# Altium integrated library Inductor 22uH.IntLib: 360 symbols (part 1 of 7)
Pins are listed as number, name and electrical type; pins without a type are passive.

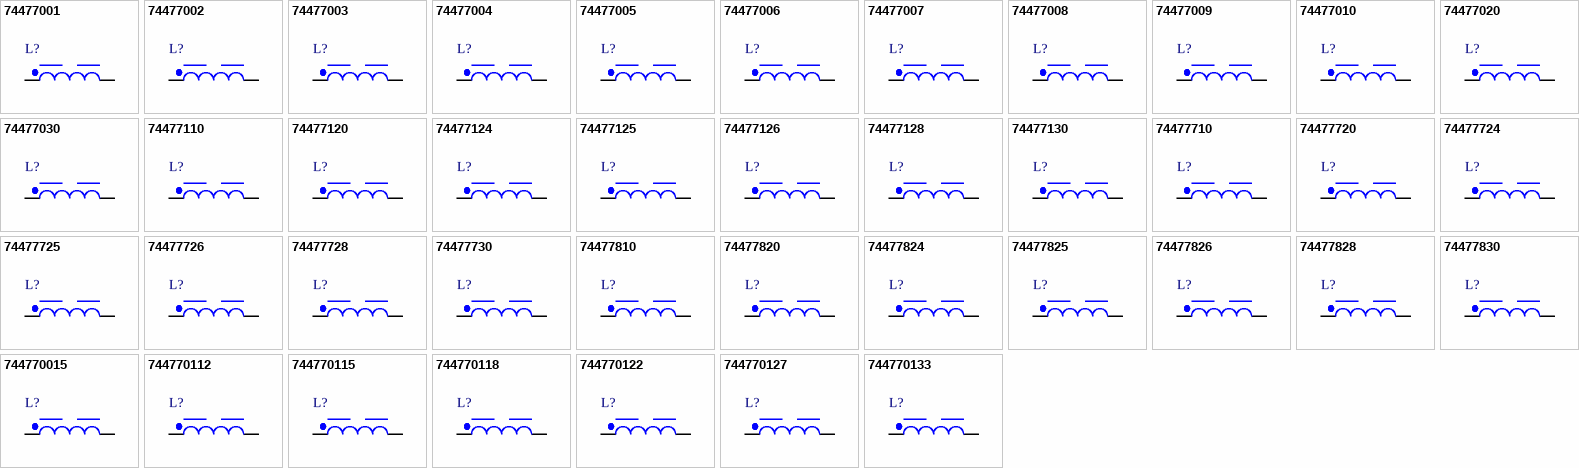
[diagram p0: symbols 74477001 to 744770133]

## 74477001
designator L?, comment 1.2 μH, 13.5 A  (value not drawn)
WE-PD SMT Power Inductor, size 1280, 1.2 μH, 13.5 A, 7 mΩ; Manufacturer Part Number: 74477001; Manufacturer: Wurth Elektronik; Case/Size Code: 1280; DC Resistance: 4.6 mΩ; DC Resistance Max: 7 mΩ; Inductance: 1.2 μH; Rated Current: 13.5 A; Saturation Current: 21 A; Self Resonant Frequency: 45 MHz; Type: Standard; Category: Power Inductors; Match Code: WE-PD; ComponentLink1Description: Website Link; ComponentLink1URL: https://www.we-online.com/redexpert/article/74477001?ad; ComponentLink2Description: Datasheet Link; ComponentLink2URL: https://www.we-online.com/redexpert/spec/74477001?ad; Mount: Surface Mount; Min Operating Temperature: -40 °C; Max Operating Temperature: 125 °C; Packaging: Tape and Reel; Length: 12 mm; Width: 12 mm; Height: 8 mm
footprint WE-PD_1280
simulation model 1280_74477001_1.2u
pins: 1, 2

## 74477002
designator L?, comment 2.4 μH, 11.5 A  (value not drawn)
WE-PD SMT Power Inductor, size 1280, 2.4 μH, 11.5 A, 9 mΩ; Manufacturer Part Number: 74477002; Manufacturer: Wurth Elektronik; Case/Size Code: 1280; DC Resistance: 6.3 mΩ; DC Resistance Max: 9 mΩ; Inductance: 2.4 μH; Rated Current: 11.5 A; Saturation Current: 15 A; Self Resonant Frequency: 41 MHz; Type: Standard; Category: Power Inductors; Match Code: WE-PD; ComponentLink1Description: Website Link; ComponentLink1URL: https://www.we-online.com/redexpert/article/74477002?ad; ComponentLink2Description: Datasheet Link; ComponentLink2URL: https://www.we-online.com/redexpert/spec/74477002?ad; Mount: Surface Mount; Min Operating Temperature: -40 °C; Max Operating Temperature: 125 °C; Packaging: Tape and Reel; Length: 12 mm; Width: 12 mm; Height: 8 mm
footprint WE-PD_1280
simulation model 1280_74477002_2.4u
pins: 1, 2

## 74477003
designator L?, comment 3.5 μH, 10.2 A  (value not drawn)
WE-PD SMT Power Inductor, size 1280, 3.5 μH, 10.2 A, 11 mΩ; Manufacturer Part Number: 74477003; Manufacturer: Wurth Elektronik; Case/Size Code: 1280; DC Resistance: 8 mΩ; DC Resistance Max: 11 mΩ; Inductance: 3.5 μH; Rated Current: 10.2 A; Saturation Current: 12.5 A; Self Resonant Frequency: 37.5 MHz; Type: Standard; Category: Power Inductors; Match Code: WE-PD; ComponentLink1Description: Website Link; ComponentLink1URL: https://www.we-online.com/redexpert/article/74477003?ad; ComponentLink2Description: Datasheet Link; ComponentLink2URL: https://www.we-online.com/redexpert/spec/74477003?ad; Mount: Surface Mount; Min Operating Temperature: -40 °C; Max Operating Temperature: 125 °C; Packaging: Tape and Reel; Length: 12 mm; Width: 12 mm; Height: 8 mm
footprint WE-PD_1280
simulation model 1280_74477003_3.5u
pins: 1, 2

## 74477004
designator L?, comment 4.7 μH, 9.5 A  (value not drawn)
WE-PD SMT Power Inductor, size 1280, 4.7 μH, 9.5 A, 12 mΩ; Manufacturer Part Number: 74477004; Manufacturer: Wurth Elektronik; Case/Size Code: 1280; DC Resistance: 9 mΩ; DC Resistance Max: 12 mΩ; Inductance: 4.7 μH; Rated Current: 9.5 A; Saturation Current: 11 A; Self Resonant Frequency: 31.2 MHz; Type: Standard; Category: Power Inductors; Match Code: WE-PD; ComponentLink1Description: Website Link; ComponentLink1URL: https://www.we-online.com/redexpert/article/74477004?ad; ComponentLink2Description: Datasheet Link; ComponentLink2URL: https://www.we-online.com/redexpert/spec/74477004?ad; Mount: Surface Mount; Min Operating Temperature: -40 °C; Max Operating Temperature: 125 °C; Packaging: Tape and Reel; Length: 12 mm; Width: 12 mm; Height: 8 mm
footprint WE-PD_1280
simulation model 1280_74477004_4.7u
pins: 1, 2

## 74477005
designator L?, comment 5.6 μH, 8.7 A  (value not drawn)
WE-PD SMT Power Inductor, size 1280, 5.6 μH, 8.7 A, 13.5 mΩ; Manufacturer Part Number: 74477005; Manufacturer: Wurth Elektronik; Case/Size Code: 1280; DC Resistance: 10.5 mΩ; DC Resistance Max: 13.5 mΩ; Inductance: 5.6 μH; Rated Current: 8.7 A; Saturation Current: 10 A; Self Resonant Frequency: 24 MHz; Type: Standard; Category: Power Inductors; Match Code: WE-PD; ComponentLink1Description: Website Link; ComponentLink1URL: https://www.we-online.com/redexpert/article/74477005?ad; ComponentLink2Description: Datasheet Link; ComponentLink2URL: https://www.we-online.com/redexpert/spec/74477005?ad; Mount: Surface Mount; Min Operating Temperature: -40 °C; Max Operating Temperature: 125 °C; Packaging: Tape and Reel; Length: 12 mm; Width: 12 mm; Height: 8 mm
footprint WE-PD_1280
simulation model 1280_74477005_5.6u
pins: 1, 2

## 74477006
designator L?, comment 6.1 μH, 8.5 A  (value not drawn)
WE-PD SMT Power Inductor, size 1280, 6.1 μH, 8.5 A, 14 mΩ; Manufacturer Part Number: 74477006; Manufacturer: Wurth Elektronik; Case/Size Code: 1280; DC Resistance: 11 mΩ; DC Resistance Max: 14 mΩ; Inductance: 6.1 μH; Rated Current: 8.5 A; Saturation Current: 9.5 A; Self Resonant Frequency: 25 MHz; Type: Standard; Category: Power Inductors; Match Code: WE-PD; ComponentLink1Description: Website Link; ComponentLink1URL: https://www.we-online.com/redexpert/article/74477006?ad; ComponentLink2Description: Datasheet Link; ComponentLink2URL: https://www.we-online.com/redexpert/spec/74477006?ad; Mount: Surface Mount; Min Operating Temperature: -40 °C; Max Operating Temperature: 125 °C; Packaging: Tape and Reel; Length: 12 mm; Width: 12 mm; Height: 8 mm
footprint WE-PD_1280
simulation model 1280_74477006_6.1u
pins: 1, 2

## 74477007
designator L?, comment 7.6 μH, 8.4 A  (value not drawn)
WE-PD SMT Power Inductor, size 1280, 7.6 μH, 8.4 A, 15 mΩ; Manufacturer Part Number: 74477007; Manufacturer: Wurth Elektronik; Case/Size Code: 1280; DC Resistance: 11.5 mΩ; DC Resistance Max: 15 mΩ; Inductance: 7.6 μH; Rated Current: 8.4 A; Saturation Current: 8.5 A; Self Resonant Frequency: 21.3 MHz; Type: Standard; Category: Power Inductors; Match Code: WE-PD; ComponentLink1Description: Website Link; ComponentLink1URL: https://www.we-online.com/redexpert/article/74477007?ad; ComponentLink2Description: Datasheet Link; ComponentLink2URL: https://www.we-online.com/redexpert/spec/74477007?ad; Mount: Surface Mount; Min Operating Temperature: -40 °C; Max Operating Temperature: 125 °C; Packaging: Tape and Reel; Length: 12 mm; Width: 12 mm; Height: 8 mm
footprint WE-PD_1280
simulation model 1280_74477007_7.6u
pins: 1, 2

## 74477008
designator L?, comment 0.75 μH, 17 A  (value not drawn)
WE-PD SMT Power Inductor, size 1280, 0.75 μH, 17 A, 5 mΩ; Manufacturer Part Number: 74477008; Manufacturer: Wurth Elektronik; Case/Size Code: 1280; DC Resistance: 3.2 mΩ; DC Resistance Max: 5 mΩ; Inductance: 0.75 μH; Rated Current: 17 A; Saturation Current: 27 A; Self Resonant Frequency: 110 MHz; Type: Standard; Category: Power Inductors; Match Code: WE-PD; ComponentLink1Description: Website Link; ComponentLink1URL: https://www.we-online.com/redexpert/article/74477008?ad; ComponentLink2Description: Datasheet Link; ComponentLink2URL: https://www.we-online.com/redexpert/spec/74477008?ad; Mount: Surface Mount; Min Operating Temperature: -40 °C; Max Operating Temperature: 125 °C; Packaging: Tape and Reel; Length: 12 mm; Width: 12 mm; Height: 8 mm
footprint WE-PD_1280
simulation model 1280_74477008_0.75u
pins: 1, 2

## 74477009
designator L?, comment 0.47 μH, 23.5 A  (value not drawn)
WE-PD SMT Power Inductor, size 1280, 0.47 μH, 23.5 A, 3 mΩ; Manufacturer Part Number: 74477009; Manufacturer: Wurth Elektronik; Case/Size Code: 1280; DC Resistance: 1.7 mΩ; DC Resistance Max: 3 mΩ; Inductance: 0.47 μH; Rated Current: 23.5 A; Saturation Current: 34 A; Self Resonant Frequency: 120 MHz; Type: Standard; Category: Power Inductors; Match Code: WE-PD; ComponentLink1Description: Website Link; ComponentLink1URL: https://www.we-online.com/redexpert/article/74477009?ad; ComponentLink2Description: Datasheet Link; ComponentLink2URL: https://www.we-online.com/redexpert/spec/74477009?ad; Mount: Surface Mount; Min Operating Temperature: -40 °C; Max Operating Temperature: 125 °C; Packaging: Tape and Reel; Length: 12 mm; Width: 12 mm; Height: 8 mm
footprint WE-PD_1280
simulation model 1280_74477009_0.47u
pins: 1, 2

## 74477010
designator L?, comment 10 μH, 7 A  (value not drawn)
WE-PD SMT Power Inductor, size 1280, 10 μH, 7 A, 20 mΩ; Manufacturer Part Number: 74477010; Manufacturer: Wurth Elektronik; Case/Size Code: 1280; DC Resistance: 15 mΩ; DC Resistance Max: 20 mΩ; Inductance: 10 μH; Rated Current: 7 A; Saturation Current: 7.5 A; Self Resonant Frequency: 18 MHz; Type: Standard; Category: Power Inductors; Match Code: WE-PD; ComponentLink1Description: Website Link; ComponentLink1URL: https://www.we-online.com/redexpert/article/74477010?ad; ComponentLink2Description: Datasheet Link; ComponentLink2URL: https://www.we-online.com/redexpert/spec/74477010?ad; Mount: Surface Mount; Min Operating Temperature: -40 °C; Max Operating Temperature: 125 °C; Packaging: Tape and Reel; Length: 12 mm; Width: 12 mm; Height: 8 mm
footprint WE-PD_1280
simulation model 1280_74477010_10u
pins: 1, 2

## 74477020
designator L?, comment 100 μH, 2.2 A  (value not drawn)
WE-PD SMT Power Inductor, size 1280, 100 μH, 2.2 A, 140 mΩ; Manufacturer Part Number: 74477020; Manufacturer: Wurth Elektronik; Case/Size Code: 1280; DC Resistance: 117 mΩ; DC Resistance Max: 140 mΩ; Inductance: 100 μH; Rated Current: 2.2 A; Saturation Current: 2.4 A; Self Resonant Frequency: 5.2 MHz; Type: Standard; Category: Power Inductors; Match Code: WE-PD; ComponentLink1Description: Website Link; ComponentLink1URL: https://www.we-online.com/redexpert/article/74477020?ad; ComponentLink2Description: Datasheet Link; ComponentLink2URL: https://www.we-online.com/redexpert/spec/74477020?ad; Mount: Surface Mount; Min Operating Temperature: -40 °C; Max Operating Temperature: 125 °C; Packaging: Tape and Reel; Length: 12 mm; Width: 12 mm; Height: 8 mm
footprint WE-PD_1280
simulation model 1280_74477020_100u
pins: 1, 2

## 74477030
designator L?, comment 1000 μH, 0.65 A  (value not drawn)
WE-PD SMT Power Inductor, size 1280, 1000 μH, 0.65 A, 1180 mΩ; Manufacturer Part Number: 74477030; Manufacturer: Wurth Elektronik; Case/Size Code: 1280; DC Resistance: 980 mΩ; DC Resistance Max: 1180 mΩ; Inductance: 1000 μH; Rated Current: 0.65 A; Saturation Current: 0.7 A; Self Resonant Frequency: 1.8 MHz; Type: Standard; Category: Power Inductors; Match Code: WE-PD; ComponentLink1Description: Website Link; ComponentLink1URL: https://www.we-online.com/redexpert/article/74477030?ad; ComponentLink2Description: Datasheet Link; ComponentLink2URL: https://www.we-online.com/redexpert/spec/74477030?ad; Mount: Surface Mount; Min Operating Temperature: -40 °C; Max Operating Temperature: 125 °C; Packaging: Tape and Reel; Length: 12 mm; Width: 12 mm; Height: 8 mm
footprint WE-PD_1280
simulation model 1280_74477030_1000u
pins: 1, 2

## 74477110
designator L?, comment 10 μH, 5 A  (value not drawn)
WE-PD SMT Power Inductor, size 1260, 10 μH, 5 A, 24 mΩ; Manufacturer Part Number: 74477110; Manufacturer: Wurth Elektronik; Case/Size Code: 1260; DC Resistance: 18.5 mΩ; DC Resistance Max: 24 mΩ; Inductance: 10 μH; Rated Current: 5 A; Saturation Current: 5.5 A; Self Resonant Frequency: 21.5 MHz; Type: Standard; Category: Power Inductors; Match Code: WE-PD; ComponentLink1Description: Website Link; ComponentLink1URL: https://www.we-online.com/redexpert/article/74477110?ad; ComponentLink2Description: Datasheet Link; ComponentLink2URL: https://www.we-online.com/redexpert/spec/74477110?ad; Mount: Surface Mount; Min Operating Temperature: -40 °C; Max Operating Temperature: 125 °C; Packaging: Tape and Reel; Length: 12 mm; Width: 12 mm; Height: 6 mm
footprint WE-PD_1260
simulation model 1260_74477110_10u
pins: 1, 2

## 74477120
designator L?, comment 100 μH, 1.6 A  (value not drawn)
WE-PD SMT Power Inductor, size 1260, 100 μH, 1.6 A, 160 mΩ; Manufacturer Part Number: 74477120; Manufacturer: Wurth Elektronik; Case/Size Code: 1260; DC Resistance: 135 mΩ; DC Resistance Max: 160 mΩ; Inductance: 100 μH; Rated Current: 1.6 A; Saturation Current: 1.7 A; Self Resonant Frequency: 6.6 MHz; Type: Standard; Category: Power Inductors; Match Code: WE-PD; ComponentLink1Description: Website Link; ComponentLink1URL: https://www.we-online.com/redexpert/article/74477120?ad; ComponentLink2Description: Datasheet Link; ComponentLink2URL: https://www.we-online.com/redexpert/spec/74477120?ad; Mount: Surface Mount; Min Operating Temperature: -40 °C; Max Operating Temperature: 125 °C; Packaging: Tape and Reel; Length: 12 mm; Width: 12 mm; Height: 6 mm
footprint WE-PD_1260
simulation model 1260_74477120_100u
pins: 1, 2

## 74477124
designator L?, comment 470 μH, 0.7 A  (value not drawn)
WE-PD SMT Power Inductor, size 1260, 470 μH, 0.7 A, 710 mΩ; Manufacturer Part Number: 74477124; Manufacturer: Wurth Elektronik; Case/Size Code: 1260; DC Resistance: 590 mΩ; DC Resistance Max: 710 mΩ; Inductance: 470 μH; Rated Current: 0.7 A; Saturation Current: 0.8 A; Self Resonant Frequency: 2.6 MHz; Type: Standard; Category: Power Inductors; Match Code: WE-PD; ComponentLink1Description: Website Link; ComponentLink1URL: https://www.we-online.com/redexpert/article/74477124?ad; ComponentLink2Description: Datasheet Link; ComponentLink2URL: https://www.we-online.com/redexpert/spec/74477124?ad; Mount: Surface Mount; Min Operating Temperature: -40 °C; Max Operating Temperature: 125 °C; Packaging: Tape and Reel; Length: 12 mm; Width: 12 mm; Height: 6 mm
footprint WE-PD_1260
simulation model 1260_74477124_470u
pins: 1, 2

## 74477125
designator L?, comment 560 μH, 0.65 A  (value not drawn)
WE-PD SMT Power Inductor, size 1260, 560 μH, 0.65 A, 890 mΩ; Manufacturer Part Number: 74477125; Manufacturer: Wurth Elektronik; Case/Size Code: 1260; DC Resistance: 740 mΩ; DC Resistance Max: 890 mΩ; Inductance: 560 μH; Rated Current: 0.65 A; Saturation Current: 0.7 A; Self Resonant Frequency: 2.5 MHz; Type: Standard; Category: Power Inductors; Match Code: WE-PD; ComponentLink1Description: Website Link; ComponentLink1URL: https://www.we-online.com/redexpert/article/74477125?ad; ComponentLink2Description: Datasheet Link; ComponentLink2URL: https://www.we-online.com/redexpert/spec/74477125?ad; Mount: Surface Mount; Min Operating Temperature: -40 °C; Max Operating Temperature: 125 °C; Packaging: Tape and Reel; Length: 12 mm; Width: 12 mm; Height: 6 mm
footprint WE-PD_1260
simulation model 1260_74477125_560u
pins: 1, 2

## 74477126
designator L?, comment 680 μH, 0.6 A  (value not drawn)
WE-PD SMT Power Inductor, size 1260, 680 μH, 0.6 A, 1020 mΩ; Manufacturer Part Number: 74477126; Manufacturer: Wurth Elektronik; Case/Size Code: 1260; DC Resistance: 850 mΩ; DC Resistance Max: 1020 mΩ; Inductance: 680 μH; Rated Current: 0.6 A; Saturation Current: 0.68 A; Self Resonant Frequency: 2.3 MHz; Type: Standard; Category: Power Inductors; Match Code: WE-PD; ComponentLink1Description: Website Link; ComponentLink1URL: https://www.we-online.com/redexpert/article/74477126?ad; ComponentLink2Description: Datasheet Link; ComponentLink2URL: https://www.we-online.com/redexpert/spec/74477126?ad; Mount: Surface Mount; Min Operating Temperature: -40 °C; Max Operating Temperature: 125 °C; Packaging: Tape and Reel; Length: 12 mm; Width: 12 mm; Height: 6 mm
footprint WE-PD_1260
simulation model 1260_74477126_680u
pins: 1, 2

## 74477128
designator L?, comment 820 μH, 0.55 A  (value not drawn)
WE-PD SMT Power Inductor, size 1260, 820 μH, 0.55 A, 1200 mΩ; Manufacturer Part Number: 74477128; Manufacturer: Wurth Elektronik; Case/Size Code: 1260; DC Resistance: 980 mΩ; DC Resistance Max: 1200 mΩ; Inductance: 820 μH; Rated Current: 0.55 A; Saturation Current: 0.6 A; Self Resonant Frequency: 2.1 MHz; Type: Standard; Category: Power Inductors; Match Code: WE-PD; ComponentLink1Description: Website Link; ComponentLink1URL: https://www.we-online.com/redexpert/article/74477128?ad; ComponentLink2Description: Datasheet Link; ComponentLink2URL: https://www.we-online.com/redexpert/spec/74477128?ad; Mount: Surface Mount; Min Operating Temperature: -40 °C; Max Operating Temperature: 125 °C; Packaging: Tape and Reel; Length: 12 mm; Width: 12 mm; Height: 6 mm
footprint WE-PD_1260
simulation model 1260_74477128_820u
pins: 1, 2

## 74477130
designator L?, comment 1000 μH, 0.5 A  (value not drawn)
WE-PD SMT Power Inductor, size 1260, 1000 μH, 0.5 A, 1600 mΩ; Manufacturer Part Number: 74477130; Manufacturer: Wurth Elektronik; Case/Size Code: 1260; DC Resistance: 1330 mΩ; DC Resistance Max: 1600 mΩ; Inductance: 1000 μH; Rated Current: 0.5 A; Saturation Current: 0.55 A; Self Resonant Frequency: 1.9 MHz; Type: Standard; Category: Power Inductors; Match Code: WE-PD; ComponentLink1Description: Website Link; ComponentLink1URL: https://www.we-online.com/redexpert/article/74477130?ad; ComponentLink2Description: Datasheet Link; ComponentLink2URL: https://www.we-online.com/redexpert/spec/74477130?ad; Mount: Surface Mount; Min Operating Temperature: -40 °C; Max Operating Temperature: 125 °C; Packaging: Tape and Reel; Length: 12 mm; Width: 12 mm; Height: 6 mm
footprint WE-PD_1260
simulation model 1260_74477130_1000u
pins: 1, 2

## 74477710
designator L?, comment 10 μH, 2 A  (value not drawn)
WE-PD SMT Power Inductor, size 7345, 10 μH, 2 A, 49 mΩ; Manufacturer Part Number: 74477710; Manufacturer: Wurth Elektronik; Case/Size Code: 7345; DC Resistance: 45 mΩ; DC Resistance Max: 49 mΩ; Inductance: 10 μH; Rated Current: 2 A; Saturation Current: 2.6 A; Self Resonant Frequency: 26 MHz; Type: Standard; Category: Power Inductors; Match Code: WE-PD; ComponentLink1Description: Website Link; ComponentLink1URL: https://www.we-online.com/redexpert/article/74477710?ad; ComponentLink2Description: Datasheet Link; ComponentLink2URL: https://www.we-online.com/redexpert/spec/74477710?ad; Mount: Surface Mount; Min Operating Temperature: -40 °C; Max Operating Temperature: 125 °C; Packaging: Tape and Reel; Length: 7.3 mm; Width: 7.3 mm; Height: 4.5 mm
footprint WE-PD_7345
simulation model 7345_74477710_10u
pins: 1, 2

## 74477720
designator L?, comment 100 μH, 0.79 A  (value not drawn)
WE-PD SMT Power Inductor, size 7345, 100 μH, 0.79 A, 610 mΩ; Manufacturer Part Number: 74477720; Manufacturer: Wurth Elektronik; Case/Size Code: 7345; DC Resistance: 290 mΩ; DC Resistance Max: 610 mΩ; Inductance: 100 μH; Rated Current: 0.79 A; Saturation Current: 0.75 A; Self Resonant Frequency: 7.5 MHz; Type: Standard; Category: Power Inductors; Match Code: WE-PD; ComponentLink1Description: Website Link; ComponentLink1URL: https://www.we-online.com/redexpert/article/74477720?ad; ComponentLink2Description: Datasheet Link; ComponentLink2URL: https://www.we-online.com/redexpert/spec/74477720?ad; Mount: Surface Mount; Min Operating Temperature: -40 °C; Max Operating Temperature: 125 °C; Packaging: Tape and Reel; Length: 7.3 mm; Width: 7.3 mm; Height: 4.5 mm
footprint WE-PD_7345
simulation model 7345_74477720_100u
pins: 1, 2

## 74477724
designator L?, comment 470 μH, 0.29 A  (value not drawn)
WE-PD SMT Power Inductor, size 7345, 470 μH, 0.29 A, 3010 mΩ; Manufacturer Part Number: 74477724; Manufacturer: Wurth Elektronik; Case/Size Code: 7345; DC Resistance: 1600 mΩ; DC Resistance Max: 3010 mΩ; Inductance: 470 μH; Rated Current: 0.29 A; Saturation Current: 0.34 A; Self Resonant Frequency: 3.2 MHz; Type: Standard; Category: Power Inductors; Match Code: WE-PD; ComponentLink1Description: Website Link; ComponentLink1URL: https://www.we-online.com/redexpert/article/74477724?ad; ComponentLink2Description: Datasheet Link; ComponentLink2URL: https://www.we-online.com/redexpert/spec/74477724?ad; Mount: Surface Mount; Min Operating Temperature: -40 °C; Max Operating Temperature: 125 °C; Packaging: Tape and Reel; Length: 7.3 mm; Width: 7.3 mm; Height: 4.5 mm
footprint WE-PD_7345
simulation model 7345_74477724_470u
pins: 1, 2

## 74477725
designator L?, comment 560 μH, 0.28 A  (value not drawn)
WE-PD SMT Power Inductor, size 7345, 560 μH, 0.28 A, 3620 mΩ; Manufacturer Part Number: 74477725; Manufacturer: Wurth Elektronik; Case/Size Code: 7345; DC Resistance: 1720 mΩ; DC Resistance Max: 3620 mΩ; Inductance: 560 μH; Rated Current: 0.28 A; Saturation Current: 0.31 A; Self Resonant Frequency: 3 MHz; Type: Standard; Category: Power Inductors; Match Code: WE-PD; ComponentLink1Description: Website Link; ComponentLink1URL: https://www.we-online.com/redexpert/article/74477725?ad; ComponentLink2Description: Datasheet Link; ComponentLink2URL: https://www.we-online.com/redexpert/spec/74477725?ad; Mount: Surface Mount; Min Operating Temperature: -40 °C; Max Operating Temperature: 125 °C; Packaging: Tape and Reel; Length: 7.3 mm; Width: 7.3 mm; Height: 4.5 mm
footprint WE-PD_7345
simulation model 7345_74477725_560u
pins: 1, 2

## 74477726
designator L?, comment 680 μH, 0.23 A  (value not drawn)
WE-PD SMT Power Inductor, size 7345, 680 μH, 0.23 A, 4630 mΩ; Manufacturer Part Number: 74477726; Manufacturer: Wurth Elektronik; Case/Size Code: 7345; DC Resistance: 2600 mΩ; DC Resistance Max: 4630 mΩ; Inductance: 680 μH; Rated Current: 0.23 A; Saturation Current: 0.28 A; Self Resonant Frequency: 2.7 MHz; Type: Standard; Category: Power Inductors; Match Code: WE-PD; ComponentLink1Description: Website Link; ComponentLink1URL: https://www.we-online.com/redexpert/article/74477726?ad; ComponentLink2Description: Datasheet Link; ComponentLink2URL: https://www.we-online.com/redexpert/spec/74477726?ad; Mount: Surface Mount; Min Operating Temperature: -40 °C; Max Operating Temperature: 125 °C; Packaging: Tape and Reel; Length: 7.3 mm; Width: 7.3 mm; Height: 4.5 mm
footprint WE-PD_7345
simulation model 7345_74477726_680u
pins: 1, 2

## 74477728
designator L?, comment 820 μH, 0.21 A  (value not drawn)
WE-PD SMT Power Inductor, size 7345, 820 μH, 0.21 A, 5200 mΩ; Manufacturer Part Number: 74477728; Manufacturer: Wurth Elektronik; Case/Size Code: 7345; DC Resistance: 3000 mΩ; DC Resistance Max: 5200 mΩ; Inductance: 820 μH; Rated Current: 0.21 A; Saturation Current: 0.26 A; Self Resonant Frequency: 2.5 MHz; Type: Standard; Category: Power Inductors; Match Code: WE-PD; ComponentLink1Description: Website Link; ComponentLink1URL: https://www.we-online.com/redexpert/article/74477728?ad; ComponentLink2Description: Datasheet Link; ComponentLink2URL: https://www.we-online.com/redexpert/spec/74477728?ad; Mount: Surface Mount; Min Operating Temperature: -40 °C; Max Operating Temperature: 125 °C; Packaging: Tape and Reel; Length: 7.3 mm; Width: 7.3 mm; Height: 4.5 mm
footprint WE-PD_7345
simulation model 7345_74477728_820u
pins: 1, 2

## 74477730
designator L?, comment 1000 μH, 0.2 A  (value not drawn)
WE-PD SMT Power Inductor, size 7345, 1000 μH, 0.2 A, 6000 mΩ; Manufacturer Part Number: 74477730; Manufacturer: Wurth Elektronik; Case/Size Code: 7345; DC Resistance: 3270 mΩ; DC Resistance Max: 6000 mΩ; Inductance: 1000 μH; Rated Current: 0.2 A; Saturation Current: 0.25 A; Self Resonant Frequency: 2.2 MHz; Type: Standard; Category: Power Inductors; Match Code: WE-PD; ComponentLink1Description: Website Link; ComponentLink1URL: https://www.we-online.com/redexpert/article/74477730?ad; ComponentLink2Description: Datasheet Link; ComponentLink2URL: https://www.we-online.com/redexpert/spec/74477730?ad; Mount: Surface Mount; Min Operating Temperature: -40 °C; Max Operating Temperature: 125 °C; Packaging: Tape and Reel; Length: 7.3 mm; Width: 7.3 mm; Height: 4.5 mm
footprint WE-PD_7345
simulation model 7345_74477730_1000u
pins: 1, 2

## 74477810
designator L?, comment 10 μH, 1.83 A  (value not drawn)
WE-PD SMT Power Inductor, size 7332, 10 μH, 1.83 A, 72 mΩ; Manufacturer Part Number: 74477810; Manufacturer: Wurth Elektronik; Case/Size Code: 7332; DC Resistance: 68 mΩ; DC Resistance Max: 72 mΩ; Inductance: 10 μH; Rated Current: 1.83 A; Saturation Current: 2.2 A; Self Resonant Frequency: 32 MHz; Type: Standard; Category: Power Inductors; Match Code: WE-PD; ComponentLink1Description: Website Link; ComponentLink1URL: https://www.we-online.com/redexpert/article/74477810?ad; ComponentLink2Description: Datasheet Link; ComponentLink2URL: https://www.we-online.com/redexpert/spec/74477810?ad; Mount: Surface Mount; Min Operating Temperature: -40 °C; Max Operating Temperature: 125 °C; Packaging: Tape and Reel; Length: 7.3 mm; Width: 7.3 mm; Height: 3.2 mm
footprint WE-PD_7332
simulation model 7332_74477810_10u
pins: 1, 2

## 74477820
designator L?, comment 100 μH, 0.62 A  (value not drawn)
WE-PD SMT Power Inductor, size 7332, 100 μH, 0.62 A, 790 mΩ; Manufacturer Part Number: 74477820; Manufacturer: Wurth Elektronik; Case/Size Code: 7332; DC Resistance: 580 mΩ; DC Resistance Max: 790 mΩ; Inductance: 100 μH; Rated Current: 0.62 A; Saturation Current: 0.76 A; Self Resonant Frequency: 9 MHz; Type: Standard; Category: Power Inductors; Match Code: WE-PD; ComponentLink1Description: Website Link; ComponentLink1URL: https://www.we-online.com/redexpert/article/74477820?ad; ComponentLink2Description: Datasheet Link; ComponentLink2URL: https://www.we-online.com/redexpert/spec/74477820?ad; Mount: Surface Mount; Min Operating Temperature: -40 °C; Max Operating Temperature: 125 °C; Packaging: Tape and Reel; Length: 7.3 mm; Width: 7.3 mm; Height: 3.2 mm
footprint WE-PD_7332
simulation model 7332_74477820_100u
pins: 1, 2

## 74477824
designator L?, comment 470 μH, 0.3 A  (value not drawn)
WE-PD SMT Power Inductor, size 7332, 470 μH, 0.3 A, 4180 mΩ; Manufacturer Part Number: 74477824; Manufacturer: Wurth Elektronik; Case/Size Code: 7332; DC Resistance: 2600 mΩ; DC Resistance Max: 4180 mΩ; Inductance: 470 μH; Rated Current: 0.3 A; Saturation Current: 0.31 A; Self Resonant Frequency: 4 MHz; Type: Standard; Category: Power Inductors; Match Code: WE-PD; ComponentLink1Description: Website Link; ComponentLink1URL: https://www.we-online.com/redexpert/article/74477824?ad; ComponentLink2Description: Datasheet Link; ComponentLink2URL: https://www.we-online.com/redexpert/spec/74477824?ad; Mount: Surface Mount; Min Operating Temperature: -40 °C; Max Operating Temperature: 125 °C; Packaging: Tape and Reel; Length: 7.3 mm; Width: 7.3 mm; Height: 3.2 mm
footprint WE-PD_7332
simulation model 7332_74477824_470u
pins: 1, 2

## 74477825
designator L?, comment 560 μH, 0.27 A  (value not drawn)
WE-PD SMT Power Inductor, size 7332, 560 μH, 0.27 A, 4670 mΩ; Manufacturer Part Number: 74477825; Manufacturer: Wurth Elektronik; Case/Size Code: 7332; DC Resistance: 3000 mΩ; DC Resistance Max: 4670 mΩ; Inductance: 560 μH; Rated Current: 0.27 A; Saturation Current: 0.3 A; Self Resonant Frequency: 3.7 MHz; Type: Standard; Category: Power Inductors; Match Code: WE-PD; ComponentLink1Description: Website Link; ComponentLink1URL: https://www.we-online.com/redexpert/article/74477825?ad; ComponentLink2Description: Datasheet Link; ComponentLink2URL: https://www.we-online.com/redexpert/spec/74477825?ad; Mount: Surface Mount; Min Operating Temperature: -40 °C; Max Operating Temperature: 125 °C; Packaging: Tape and Reel; Length: 7.3 mm; Width: 7.3 mm; Height: 3.2 mm
footprint WE-PD_7332
simulation model 7332_74477825_560u
pins: 1, 2

## 74477826
designator L?, comment 680 μH, 0.22 A  (value not drawn)
WE-PD SMT Power Inductor, size 7332, 680 μH, 0.22 A, 5730 mΩ; Manufacturer Part Number: 74477826; Manufacturer: Wurth Elektronik; Case/Size Code: 7332; DC Resistance: 4500 mΩ; DC Resistance Max: 5730 mΩ; Inductance: 680 μH; Rated Current: 0.22 A; Self Resonant Frequency: 3.4 MHz; Type: Standard; Category: Power Inductors; Match Code: WE-PD; ComponentLink1Description: Website Link; ComponentLink1URL: https://www.we-online.com/redexpert/article/74477826?ad; ComponentLink2Description: Datasheet Link; ComponentLink2URL: https://www.we-online.com/redexpert/spec/74477826?ad; Mount: Surface Mount; Min Operating Temperature: -40 °C; Max Operating Temperature: 125 °C; Packaging: Tape and Reel; Length: 7.3 mm; Width: 7.3 mm; Height: 3.2 mm; Saturation Current: 0.22 A
footprint WE-PD_7332
simulation model 7332_74477826_680u
pins: 1, 2

## 74477828
designator L?, comment 820 μH, 0.21 A  (value not drawn)
WE-PD SMT Power Inductor, size 7332, 820 μH, 0.21 A, 6500 mΩ; Manufacturer Part Number: 74477828; Manufacturer: Wurth Elektronik; Case/Size Code: 7332; DC Resistance: 5070 mΩ; DC Resistance Max: 6500 mΩ; Inductance: 820 μH; Rated Current: 0.21 A; Saturation Current: 0.2 A; Self Resonant Frequency: 2.8 MHz; Type: Standard; Category: Power Inductors; Match Code: WE-PD; ComponentLink1Description: Website Link; ComponentLink1URL: https://www.we-online.com/redexpert/article/74477828?ad; ComponentLink2Description: Datasheet Link; ComponentLink2URL: https://www.we-online.com/redexpert/spec/74477828?ad; Mount: Surface Mount; Min Operating Temperature: -40 °C; Max Operating Temperature: 125 °C; Packaging: Tape and Reel; Length: 7.3 mm; Width: 7.3 mm; Height: 3.2 mm
footprint WE-PD_7332
simulation model 7332_74477828_820u
pins: 1, 2

## 74477830
designator L?, comment 1000 μH, 0.2 A  (value not drawn)
WE-PD SMT Power Inductor, size 7332, 1000 μH, 0.2 A, 9440 mΩ; Manufacturer Part Number: 74477830; Manufacturer: Wurth Elektronik; Case/Size Code: 7332; DC Resistance: 5570 mΩ; DC Resistance Max: 9440 mΩ; Inductance: 1000 μH; Rated Current: 0.2 A; Saturation Current: 0.18 A; Self Resonant Frequency: 2.6 MHz; Type: Standard; Category: Power Inductors; Match Code: WE-PD; ComponentLink1Description: Website Link; ComponentLink1URL: https://www.we-online.com/redexpert/article/74477830?ad; ComponentLink2Description: Datasheet Link; ComponentLink2URL: https://www.we-online.com/redexpert/spec/74477830?ad; Mount: Surface Mount; Min Operating Temperature: -40 °C; Max Operating Temperature: 125 °C; Packaging: Tape and Reel; Length: 7.3 mm; Width: 7.3 mm; Height: 3.2 mm
footprint WE-PD_7332
simulation model 7332_74477830_1000u
pins: 1, 2

## 744770015
designator L?, comment 1.5 μH, 16.5 A  (value not drawn)
WE-PD SMT Power Inductor, size 1280, 1.5 μH, 16.5 A, 5 mΩ; Manufacturer Part Number: 744770015; Manufacturer: Wurth Elektronik; Case/Size Code: 1280; DC Resistance: 3.2 mΩ; DC Resistance Max: 5 mΩ; Inductance: 1.5 μH; Rated Current: 16.5 A; Saturation Current: 19 A; Self Resonant Frequency: 42 MHz; Type: Standard; Category: Power Inductors; Match Code: WE-PD; ComponentLink1Description: Website Link; ComponentLink1URL: https://www.we-online.com/redexpert/article/744770015?ad; ComponentLink2Description: Datasheet Link; ComponentLink2URL: https://www.we-online.com/redexpert/spec/744770015?ad; Mount: Surface Mount; Min Operating Temperature: -40 °C; Max Operating Temperature: 125 °C; Packaging: Tape and Reel; Length: 12 mm; Width: 12 mm; Height: 8 mm
footprint WE-PD_1280
simulation model 1280_744770015_1.5u
pins: 1, 2

## 744770112
designator L?, comment 12 μH, 6.2 A  (value not drawn)
WE-PD SMT Power Inductor, size 1280, 12 μH, 6.2 A, 21 mΩ; Manufacturer Part Number: 744770112; Manufacturer: Wurth Elektronik; Case/Size Code: 1280; DC Resistance: 16 mΩ; DC Resistance Max: 21 mΩ; Inductance: 12 μH; Rated Current: 6.2 A; Saturation Current: 6.5 A; Self Resonant Frequency: 16 MHz; Type: Standard; Category: Power Inductors; Match Code: WE-PD; ComponentLink1Description: Website Link; ComponentLink1URL: https://www.we-online.com/redexpert/article/744770112?ad; ComponentLink2Description: Datasheet Link; ComponentLink2URL: https://www.we-online.com/redexpert/spec/744770112?ad; Mount: Surface Mount; Min Operating Temperature: -40 °C; Max Operating Temperature: 125 °C; Packaging: Tape and Reel; Length: 12 mm; Width: 12 mm; Height: 8 mm
footprint WE-PD_1280
simulation model 1280_744770112_12u
pins: 1, 2

## 744770115
designator L?, comment 15 μH, 5.8 A  (value not drawn)
WE-PD SMT Power Inductor, size 1280, 15 μH, 5.8 A, 23 mΩ; Manufacturer Part Number: 744770115; Manufacturer: Wurth Elektronik; Case/Size Code: 1280; DC Resistance: 18 mΩ; DC Resistance Max: 23 mΩ; Inductance: 15 μH; Rated Current: 5.8 A; Saturation Current: 6 A; Self Resonant Frequency: 14.5 MHz; Type: Standard; Category: Power Inductors; Match Code: WE-PD; ComponentLink1Description: Website Link; ComponentLink1URL: https://www.we-online.com/redexpert/article/744770115?ad; ComponentLink2Description: Datasheet Link; ComponentLink2URL: https://www.we-online.com/redexpert/spec/744770115?ad; Mount: Surface Mount; Min Operating Temperature: -40 °C; Max Operating Temperature: 125 °C; Packaging: Tape and Reel; Length: 12 mm; Width: 12 mm; Height: 8 mm
footprint WE-PD_1280
simulation model 1280_744770115_15u
pins: 1, 2

## 744770118
designator L?, comment 18 μH, 5 A  (value not drawn)
WE-PD SMT Power Inductor, size 1280, 18 μH, 5 A, 32 mΩ; Manufacturer Part Number: 744770118; Manufacturer: Wurth Elektronik; Case/Size Code: 1280; DC Resistance: 25 mΩ; DC Resistance Max: 32 mΩ; Inductance: 18 μH; Rated Current: 5 A; Saturation Current: 5.4 A; Self Resonant Frequency: 13.2 MHz; Type: Standard; Category: Power Inductors; Match Code: WE-PD; ComponentLink1Description: Website Link; ComponentLink1URL: https://www.we-online.com/redexpert/article/744770118?ad; ComponentLink2Description: Datasheet Link; ComponentLink2URL: https://www.we-online.com/redexpert/spec/744770118?ad; Mount: Surface Mount; Min Operating Temperature: -40 °C; Max Operating Temperature: 125 °C; Packaging: Tape and Reel; Length: 12 mm; Width: 12 mm; Height: 8 mm
footprint WE-PD_1280
simulation model 1280_744770118_18u
pins: 1, 2

## 744770122
designator L?, comment 22 μH, 4.6 A  (value not drawn)
WE-PD SMT Power Inductor, size 1280, 22 μH, 4.6 A, 35 mΩ; Manufacturer Part Number: 744770122; Manufacturer: Wurth Elektronik; Case/Size Code: 1280; DC Resistance: 29 mΩ; DC Resistance Max: 35 mΩ; Inductance: 22 μH; Rated Current: 4.6 A; Saturation Current: 5 A; Self Resonant Frequency: 12 MHz; Type: Standard; Category: Power Inductors; Match Code: WE-PD; ComponentLink1Description: Website Link; ComponentLink1URL: https://www.we-online.com/redexpert/article/744770122?ad; ComponentLink2Description: Datasheet Link; ComponentLink2URL: https://www.we-online.com/redexpert/spec/744770122?ad; Mount: Surface Mount; Min Operating Temperature: -40 °C; Max Operating Temperature: 125 °C; Packaging: Tape and Reel; Length: 12 mm; Width: 12 mm; Height: 8 mm
footprint WE-PD_1280
simulation model 1280_744770122_22u
pins: 1, 2

## 744770127
designator L?, comment 27 μH, 4.2 A  (value not drawn)
WE-PD SMT Power Inductor, size 1280, 27 μH, 4.2 A, 38 mΩ; Manufacturer Part Number: 744770127; Manufacturer: Wurth Elektronik; Case/Size Code: 1280; DC Resistance: 31 mΩ; DC Resistance Max: 38 mΩ; Inductance: 27 μH; Rated Current: 4.2 A; Saturation Current: 4.3 A; Self Resonant Frequency: 10 MHz; Type: Standard; Category: Power Inductors; Match Code: WE-PD; ComponentLink1Description: Website Link; ComponentLink1URL: https://www.we-online.com/redexpert/article/744770127?ad; ComponentLink2Description: Datasheet Link; ComponentLink2URL: https://www.we-online.com/redexpert/spec/744770127?ad; Mount: Surface Mount; Min Operating Temperature: -40 °C; Max Operating Temperature: 125 °C; Packaging: Tape and Reel; Length: 12 mm; Width: 12 mm; Height: 8 mm
footprint WE-PD_1280
simulation model 1280_744770127_27u
pins: 1, 2

## 744770133
designator L?, comment 33 μH, 3.6 A  (value not drawn)
WE-PD SMT Power Inductor, size 1280, 33 μH, 3.6 A, 53 mΩ; Manufacturer Part Number: 744770133; Manufacturer: Wurth Elektronik; Case/Size Code: 1280; DC Resistance: 44 mΩ; DC Resistance Max: 53 mΩ; Inductance: 33 μH; Rated Current: 3.6 A; Saturation Current: 3.9 A; Self Resonant Frequency: 8.5 MHz; Type: Standard; Category: Power Inductors; Match Code: WE-PD; ComponentLink1Description: Website Link; ComponentLink1URL: https://www.we-online.com/redexpert/article/744770133?ad; ComponentLink2Description: Datasheet Link; ComponentLink2URL: https://www.we-online.com/redexpert/spec/744770133?ad; Mount: Surface Mount; Min Operating Temperature: -40 °C; Max Operating Temperature: 125 °C; Packaging: Tape and Reel; Length: 12 mm; Width: 12 mm; Height: 8 mm
footprint WE-PD_1280
simulation model 1280_744770133_33u
pins: 1, 2

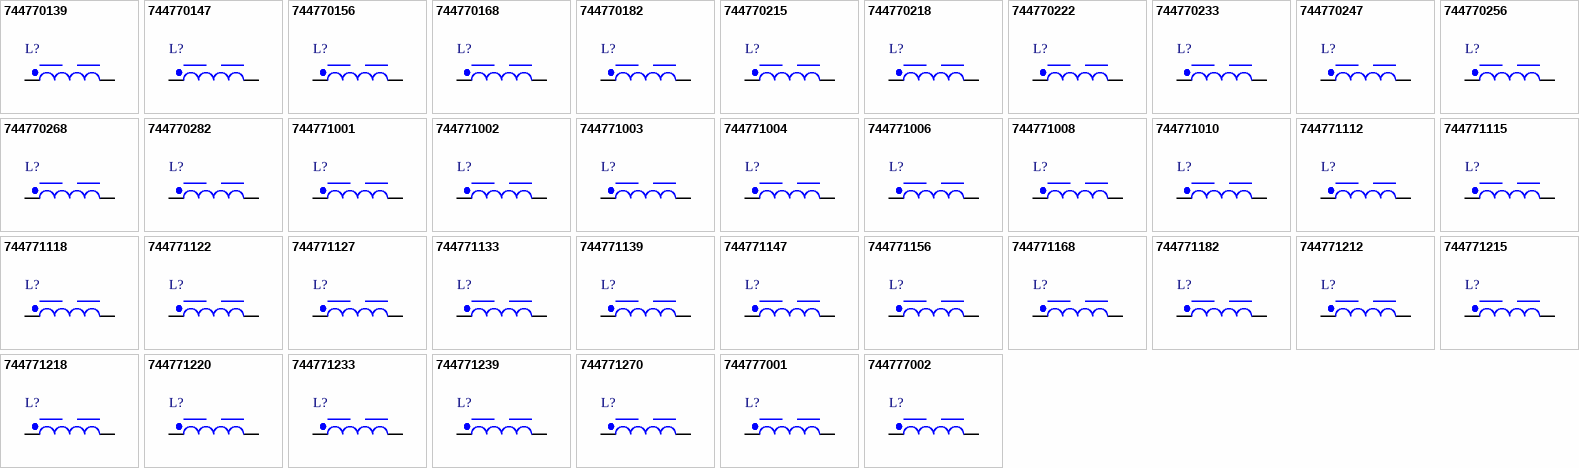
[diagram p1: symbols 744770139 to 744777002]

## 744770139
designator L?, comment 39 μH, 3.3 A  (value not drawn)
WE-PD SMT Power Inductor, size 1280, 39 μH, 3.3 A, 56 mΩ; Manufacturer Part Number: 744770139; Manufacturer: Wurth Elektronik; Case/Size Code: 1280; DC Resistance: 47 mΩ; DC Resistance Max: 56 mΩ; Inductance: 39 μH; Rated Current: 3.3 A; Saturation Current: 3.6 A; Self Resonant Frequency: 8.2 MHz; Type: Standard; Category: Power Inductors; Match Code: WE-PD; ComponentLink1Description: Website Link; ComponentLink1URL: https://www.we-online.com/redexpert/article/744770139?ad; ComponentLink2Description: Datasheet Link; ComponentLink2URL: https://www.we-online.com/redexpert/spec/744770139?ad; Mount: Surface Mount; Min Operating Temperature: -40 °C; Max Operating Temperature: 125 °C; Packaging: Tape and Reel; Length: 12 mm; Width: 12 mm; Height: 8 mm
footprint WE-PD_1280
simulation model 1280_744770139_39u
pins: 1, 2

## 744770147
designator L?, comment 47 μH, 3 A  (value not drawn)
WE-PD SMT Power Inductor, size 1280, 47 μH, 3 A, 64 mΩ; Manufacturer Part Number: 744770147; Manufacturer: Wurth Elektronik; Case/Size Code: 1280; DC Resistance: 53 mΩ; DC Resistance Max: 64 mΩ; Inductance: 47 μH; Rated Current: 3 A; Saturation Current: 3.3 A; Self Resonant Frequency: 7.9 MHz; Type: Standard; Category: Power Inductors; Match Code: WE-PD; ComponentLink1Description: Website Link; ComponentLink1URL: https://www.we-online.com/redexpert/article/744770147?ad; ComponentLink2Description: Datasheet Link; ComponentLink2URL: https://www.we-online.com/redexpert/spec/744770147?ad; Mount: Surface Mount; Min Operating Temperature: -40 °C; Max Operating Temperature: 125 °C; Packaging: Tape and Reel; Length: 12 mm; Width: 12 mm; Height: 8 mm
footprint WE-PD_1280
simulation model 1280_744770147_47u
pins: 1, 2

## 744770156
designator L?, comment 56 μH, 2.8 A  (value not drawn)
WE-PD SMT Power Inductor, size 1280, 56 μH, 2.8 A, 71 mΩ; Manufacturer Part Number: 744770156; Manufacturer: Wurth Elektronik; Case/Size Code: 1280; DC Resistance: 59 mΩ; DC Resistance Max: 71 mΩ; Inductance: 56 μH; Rated Current: 2.8 A; Saturation Current: 3 A; Self Resonant Frequency: 7.1 MHz; Type: Standard; Category: Power Inductors; Match Code: WE-PD; ComponentLink1Description: Website Link; ComponentLink1URL: https://www.we-online.com/redexpert/article/744770156?ad; ComponentLink2Description: Datasheet Link; ComponentLink2URL: https://www.we-online.com/redexpert/spec/744770156?ad; Mount: Surface Mount; Min Operating Temperature: -40 °C; Max Operating Temperature: 125 °C; Packaging: Tape and Reel; Length: 12 mm; Width: 12 mm; Height: 8 mm
footprint WE-PD_1280
simulation model 1280_744770156_56u
pins: 1, 2

## 744770168
designator L?, comment 68 μH, 2.5 A  (value not drawn)
WE-PD SMT Power Inductor, size 1280, 68 μH, 2.5 A, 90 mΩ; Manufacturer Part Number: 744770168; Manufacturer: Wurth Elektronik; Case/Size Code: 1280; DC Resistance: 76 mΩ; DC Resistance Max: 90 mΩ; Inductance: 68 μH; Rated Current: 2.5 A; Saturation Current: 2.7 A; Self Resonant Frequency: 6.4 MHz; Type: Standard; Category: Power Inductors; Match Code: WE-PD; ComponentLink1Description: Website Link; ComponentLink1URL: https://www.we-online.com/redexpert/article/744770168?ad; ComponentLink2Description: Datasheet Link; ComponentLink2URL: https://www.we-online.com/redexpert/spec/744770168?ad; Mount: Surface Mount; Min Operating Temperature: -40 °C; Max Operating Temperature: 125 °C; Packaging: Tape and Reel; Length: 12 mm; Width: 12 mm; Height: 8 mm
footprint WE-PD_1280
simulation model 1280_744770168_68u
pins: 1, 2

## 744770182
designator L?, comment 82 μH, 2.3 A  (value not drawn)
WE-PD SMT Power Inductor, size 1280, 82 μH, 2.3 A, 105 mΩ; Manufacturer Part Number: 744770182; Manufacturer: Wurth Elektronik; Case/Size Code: 1280; DC Resistance: 86 mΩ; DC Resistance Max: 105 mΩ; Inductance: 82 μH; Rated Current: 2.3 A; Saturation Current: 2.5 A; Self Resonant Frequency: 3.5 MHz; Type: Standard; Category: Power Inductors; Match Code: WE-PD; ComponentLink1Description: Website Link; ComponentLink1URL: https://www.we-online.com/redexpert/article/744770182?ad; ComponentLink2Description: Datasheet Link; ComponentLink2URL: https://www.we-online.com/redexpert/spec/744770182?ad; Mount: Surface Mount; Min Operating Temperature: -40 °C; Max Operating Temperature: 125 °C; Packaging: Tape and Reel; Length: 12 mm; Width: 12 mm; Height: 8 mm
footprint WE-PD_1280
simulation model 1280_744770182_82u
pins: 1, 2

## 744770215
designator L?, comment 150 μH, 1.8 A  (value not drawn)
WE-PD SMT Power Inductor, size 1280, 150 μH, 1.8 A, 175 mΩ; Manufacturer Part Number: 744770215; Manufacturer: Wurth Elektronik; Case/Size Code: 1280; DC Resistance: 145 mΩ; DC Resistance Max: 175 mΩ; Inductance: 150 μH; Rated Current: 1.8 A; Self Resonant Frequency: 3 MHz; Type: Standard; Category: Power Inductors; Match Code: WE-PD; ComponentLink1Description: Website Link; ComponentLink1URL: https://www.we-online.com/redexpert/article/744770215?ad; ComponentLink2Description: Datasheet Link; ComponentLink2URL: https://www.we-online.com/redexpert/spec/744770215?ad; Mount: Surface Mount; Min Operating Temperature: -40 °C; Max Operating Temperature: 125 °C; Packaging: Tape and Reel; Length: 12 mm; Width: 12 mm; Height: 8 mm; Saturation Current: 1.8 A
footprint WE-PD_1280
simulation model 1280_744770215_150u
pins: 1, 2

## 744770218
designator L?, comment 180 μH, 1.6 A  (value not drawn)
WE-PD SMT Power Inductor, size 1280, 180 μH, 1.6 A, 220 mΩ; Manufacturer Part Number: 744770218; Manufacturer: Wurth Elektronik; Case/Size Code: 1280; DC Resistance: 182 mΩ; DC Resistance Max: 220 mΩ; Inductance: 180 μH; Rated Current: 1.6 A; Saturation Current: 1.7 A; Self Resonant Frequency: 4.2 MHz; Type: Standard; Category: Power Inductors; Match Code: WE-PD; ComponentLink1Description: Website Link; ComponentLink1URL: https://www.we-online.com/redexpert/article/744770218?ad; ComponentLink2Description: Datasheet Link; ComponentLink2URL: https://www.we-online.com/redexpert/spec/744770218?ad; Mount: Surface Mount; Min Operating Temperature: -40 °C; Max Operating Temperature: 125 °C; Packaging: Tape and Reel; Length: 12 mm; Width: 12 mm; Height: 8 mm
footprint WE-PD_1280
simulation model 1280_744770218_180u
pins: 1, 2

## 744770222
designator L?, comment 220 μH, 1.4 A  (value not drawn)
WE-PD SMT Power Inductor, size 1280, 220 μH, 1.4 A, 275 mΩ; Manufacturer Part Number: 744770222; Manufacturer: Wurth Elektronik; Case/Size Code: 1280; DC Resistance: 230 mΩ; DC Resistance Max: 275 mΩ; Inductance: 220 μH; Rated Current: 1.4 A; Saturation Current: 1.5 A; Self Resonant Frequency: 3.8 MHz; Type: Standard; Category: Power Inductors; Match Code: WE-PD; ComponentLink1Description: Website Link; ComponentLink1URL: https://www.we-online.com/redexpert/article/744770222?ad; ComponentLink2Description: Datasheet Link; ComponentLink2URL: https://www.we-online.com/redexpert/spec/744770222?ad; Mount: Surface Mount; Min Operating Temperature: -40 °C; Max Operating Temperature: 125 °C; Packaging: Tape and Reel; Length: 12 mm; Width: 12 mm; Height: 8 mm
footprint WE-PD_1280
simulation model 1280_744770222_220u
pins: 1, 2

## 744770233
designator L?, comment 330 μH, 1.1 A  (value not drawn)
WE-PD SMT Power Inductor, size 1280, 330 μH, 1.1 A, 410 mΩ; Manufacturer Part Number: 744770233; Manufacturer: Wurth Elektronik; Case/Size Code: 1280; DC Resistance: 345 mΩ; DC Resistance Max: 410 mΩ; Inductance: 330 μH; Rated Current: 1.1 A; Saturation Current: 1.2 A; Self Resonant Frequency: 3 MHz; Type: Standard; Category: Power Inductors; Match Code: WE-PD; ComponentLink1Description: Website Link; ComponentLink1URL: https://www.we-online.com/redexpert/article/744770233?ad; ComponentLink2Description: Datasheet Link; ComponentLink2URL: https://www.we-online.com/redexpert/spec/744770233?ad; Mount: Surface Mount; Min Operating Temperature: -40 °C; Max Operating Temperature: 125 °C; Packaging: Tape and Reel; Length: 12 mm; Width: 12 mm; Height: 8 mm
footprint WE-PD_1280
simulation model 1280_744770233_330u
pins: 1, 2

## 744770247
designator L?, comment 470 μH, 0.98 A  (value not drawn)
WE-PD SMT Power Inductor, size 1280, 470 μH, 0.98 A, 540 mΩ; Manufacturer Part Number: 744770247; Manufacturer: Wurth Elektronik; Case/Size Code: 1280; DC Resistance: 450 mΩ; DC Resistance Max: 540 mΩ; Inductance: 470 μH; Rated Current: 0.98 A; Saturation Current: 1.05 A; Self Resonant Frequency: 2.6 MHz; Type: Standard; Category: Power Inductors; Match Code: WE-PD; ComponentLink1Description: Website Link; ComponentLink1URL: https://www.we-online.com/redexpert/article/744770247?ad; ComponentLink2Description: Datasheet Link; ComponentLink2URL: https://www.we-online.com/redexpert/spec/744770247?ad; Mount: Surface Mount; Min Operating Temperature: -40 °C; Max Operating Temperature: 125 °C; Packaging: Tape and Reel; Length: 12 mm; Width: 12 mm; Height: 8 mm
footprint WE-PD_1280
simulation model 1280_744770247_470u
pins: 1, 2

## 744770256
designator L?, comment 560 μH, 0.87 A  (value not drawn)
WE-PD SMT Power Inductor, size 1280, 560 μH, 0.87 A, 680 mΩ; Manufacturer Part Number: 744770256; Manufacturer: Wurth Elektronik; Case/Size Code: 1280; DC Resistance: 570 mΩ; DC Resistance Max: 680 mΩ; Inductance: 560 μH; Rated Current: 0.87 A; Saturation Current: 0.95 A; Self Resonant Frequency: 2.5 MHz; Type: Standard; Category: Power Inductors; Match Code: WE-PD; ComponentLink1Description: Website Link; ComponentLink1URL: https://www.we-online.com/redexpert/article/744770256?ad; ComponentLink2Description: Datasheet Link; ComponentLink2URL: https://www.we-online.com/redexpert/spec/744770256?ad; Mount: Surface Mount; Min Operating Temperature: -40 °C; Max Operating Temperature: 125 °C; Packaging: Tape and Reel; Length: 12 mm; Width: 12 mm; Height: 8 mm
footprint WE-PD_1280
simulation model 1280_744770256_560u
pins: 1, 2

## 744770268
designator L?, comment 680 μH, 0.75 A  (value not drawn)
WE-PD SMT Power Inductor, size 1280, 680 μH, 0.75 A, 930 mΩ; Manufacturer Part Number: 744770268; Manufacturer: Wurth Elektronik; Case/Size Code: 1280; DC Resistance: 780 mΩ; DC Resistance Max: 930 mΩ; Inductance: 680 μH; Rated Current: 0.75 A; Saturation Current: 0.85 A; Self Resonant Frequency: 2.2 MHz; Type: Standard; Category: Power Inductors; Match Code: WE-PD; ComponentLink1Description: Website Link; ComponentLink1URL: https://www.we-online.com/redexpert/article/744770268?ad; ComponentLink2Description: Datasheet Link; ComponentLink2URL: https://www.we-online.com/redexpert/spec/744770268?ad; Mount: Surface Mount; Min Operating Temperature: -40 °C; Max Operating Temperature: 125 °C; Packaging: Tape and Reel; Length: 12 mm; Width: 12 mm; Height: 8 mm
footprint WE-PD_1280
simulation model 1280_744770268_680u
pins: 1, 2

## 744770282
designator L?, comment 820 μH, 0.7 A  (value not drawn)
WE-PD SMT Power Inductor, size 1280, 820 μH, 0.7 A, 1050 mΩ; Manufacturer Part Number: 744770282; Manufacturer: Wurth Elektronik; Case/Size Code: 1280; DC Resistance: 870 mΩ; DC Resistance Max: 1050 mΩ; Inductance: 820 μH; Rated Current: 0.7 A; Saturation Current: 0.8 A; Self Resonant Frequency: 2 MHz; Type: Standard; Category: Power Inductors; Match Code: WE-PD; ComponentLink1Description: Website Link; ComponentLink1URL: https://www.we-online.com/redexpert/article/744770282?ad; ComponentLink2Description: Datasheet Link; ComponentLink2URL: https://www.we-online.com/redexpert/spec/744770282?ad; Mount: Surface Mount; Min Operating Temperature: -40 °C; Max Operating Temperature: 125 °C; Packaging: Tape and Reel; Length: 12 mm; Width: 12 mm; Height: 8 mm
footprint WE-PD_1280
simulation model 1280_744770282_820u
pins: 1, 2

## 744771001
designator L?, comment 1.5 μH, 12 A  (value not drawn)
WE-PD SMT Power Inductor, size 1260, 1.5 μH, 12 A, 6 mΩ; Manufacturer Part Number: 744771001; Manufacturer: Wurth Elektronik; Case/Size Code: 1260; DC Resistance: 4 mΩ; DC Resistance Max: 6 mΩ; Inductance: 1.5 μH; Rated Current: 12 A; Saturation Current: 13.5 A; Self Resonant Frequency: 60 MHz; Type: Standard; Category: Power Inductors; Match Code: WE-PD; ComponentLink1Description: Website Link; ComponentLink1URL: https://www.we-online.com/redexpert/article/744771001?ad; ComponentLink2Description: Datasheet Link; ComponentLink2URL: https://www.we-online.com/redexpert/spec/744771001?ad; Mount: Surface Mount; Min Operating Temperature: -40 °C; Max Operating Temperature: 125 °C; Packaging: Tape and Reel; Length: 12 mm; Width: 12 mm; Height: 6 mm
footprint WE-PD_1260
simulation model 1260_744771001_1.5u
pins: 1, 2

## 744771002
designator L?, comment 2.2 μH, 10 A  (value not drawn)
WE-PD SMT Power Inductor, size 1260, 2.2 μH, 10 A, 7 mΩ; Manufacturer Part Number: 744771002; Manufacturer: Wurth Elektronik; Case/Size Code: 1260; DC Resistance: 5 mΩ; DC Resistance Max: 7 mΩ; Inductance: 2.2 μH; Rated Current: 10 A; Saturation Current: 11 A; Self Resonant Frequency: 50 MHz; Type: Standard; Category: Power Inductors; Match Code: WE-PD; ComponentLink1Description: Website Link; ComponentLink1URL: https://www.we-online.com/redexpert/article/744771002?ad; ComponentLink2Description: Datasheet Link; ComponentLink2URL: https://www.we-online.com/redexpert/spec/744771002?ad; Mount: Surface Mount; Min Operating Temperature: -40 °C; Max Operating Temperature: 125 °C; Packaging: Tape and Reel; Length: 12 mm; Width: 12 mm; Height: 6 mm
footprint WE-PD_1260
simulation model 1260_744771002_2.2u
pins: 1, 2